# EAGLE library part TMP102AIDRLT (library Common-Parts-Library-Eagle)
Low-Power Digital Temperature Sensor With SMBus and Two-Wire Serial Interface in SOT563
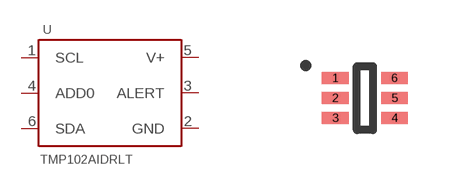
[diagram p56: symbol with the pads of SOTFL50P160X60-6N; footprint SOTFL50P160X60-6N]

Designator prefix U

## TMP102AIDRLT (MANUFACTURER: Texas Instruments)  [SOTFL50P160X60-6N]
1  SCL  in
2  GND  pwr
3  ALERT  out
4  ADD0  in
5  V+  pwr
6  SDA

## Footprint SOTFL50P160X60-6N (pad centres in mm)
smd 0.67 x 0.3: 1 -0.74,0.5; 2 -0.74,0; 3 -0.74,-0.5; 4 0.74,-0.5; 5 0.74,0; 6 0.74,0.5